# EAGLE library part INA_KUSKALLA (library INA_KUSKALLA)
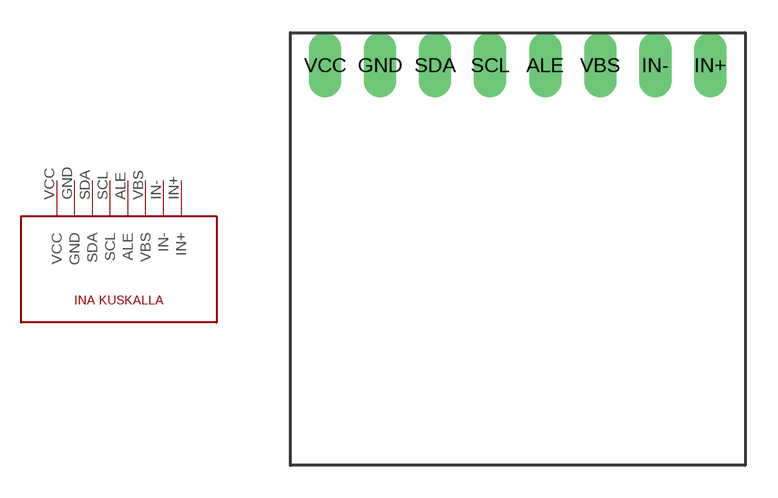
[diagram p0: symbol with the pads of INA_KUSKALLA; footprint INA_KUSKALLA]

Designator prefix -

## INA_KUSKALLA  [INA_KUSKALLA]
ALE  ALE
GND  GND
IN+  IN+
IN-  IN-
SCL  SCL
SDA  SDA
VBS  VBS
VCC  VCC

## Footprint INA_KUSKALLA (pad centres in mm)
drill 1 long: ALE 1.27,8.5; GND -6.35,8.5; IN+ 8.89,8.5; IN- 6.35,8.5; SCL -1.27,8.5; SDA -3.81,8.5; VBS 3.81,8.5; VCC -8.89,8.5